# Altium footprint library LDO-3.3V-1.5A.PcbLib: 1 footprints
Each footprint in its own frame and in the unit in brackets; x right, y up, seen from the top. Pads: shape width x height; smd on the part's side, far side on the other; paste and mask are expansions set on the pad; w line width, h text height; cw(c..) or ccw(c..) is an arc to the next point about the centre after c.
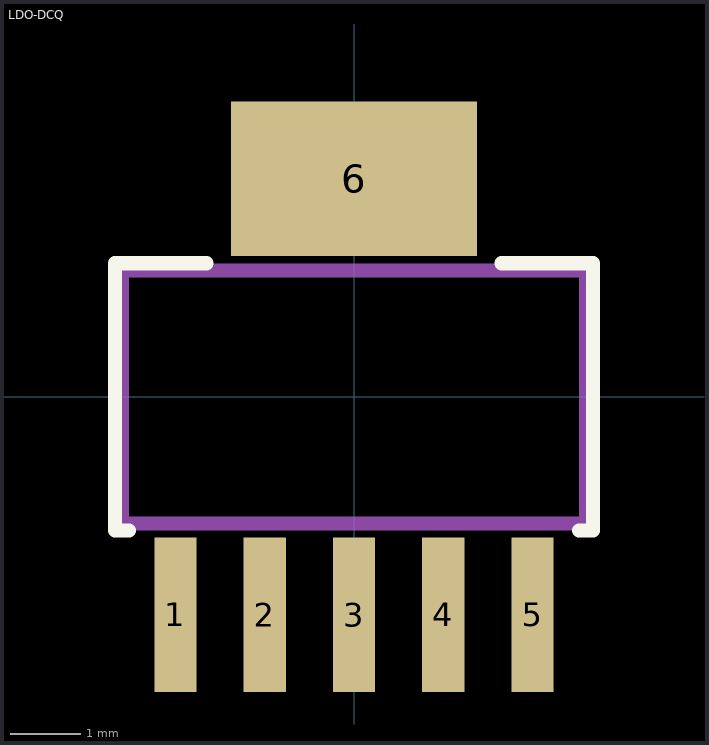
[diagram p0: the footprint, top view; thin cyan lines are the x and y axes]

## LDO-DCQ [mm]
pads (6):
  rect 0.6x2.2 smd: 1(-2.54,-3.1) 2(-1.27,-3.1) 3(0,-3.1) 4(1.27,-3.1) 5(2.54,-3.1)
  rect 3.5x2.2 smd: 6(0,3.1)
Top Overlay:
  lines w0.2: -3.2,-1.9 -3.4,-1.9 -3.4,1.9 -2.1,1.9 ; 2.1,1.9 3.4,1.9 3.4,-1.9 3.2,-1.9
Mechanical 29:
  lines w0.2: -3.3,-1.8 3.3,-1.8 3.3,1.8 -3.3,1.8 -3.3,-1.8
  text ".Designator" at -2.5,-0.7 h1.5
3D body "TPS73701DCQ.step": height 1.8, standoff 0, extent -3.275,-3.63 3.275,3.63